# Altium schematic symbol library Acorn.SchLib: 6 symbols
Pins are listed as number, name and electrical type; pins without a type are passive.

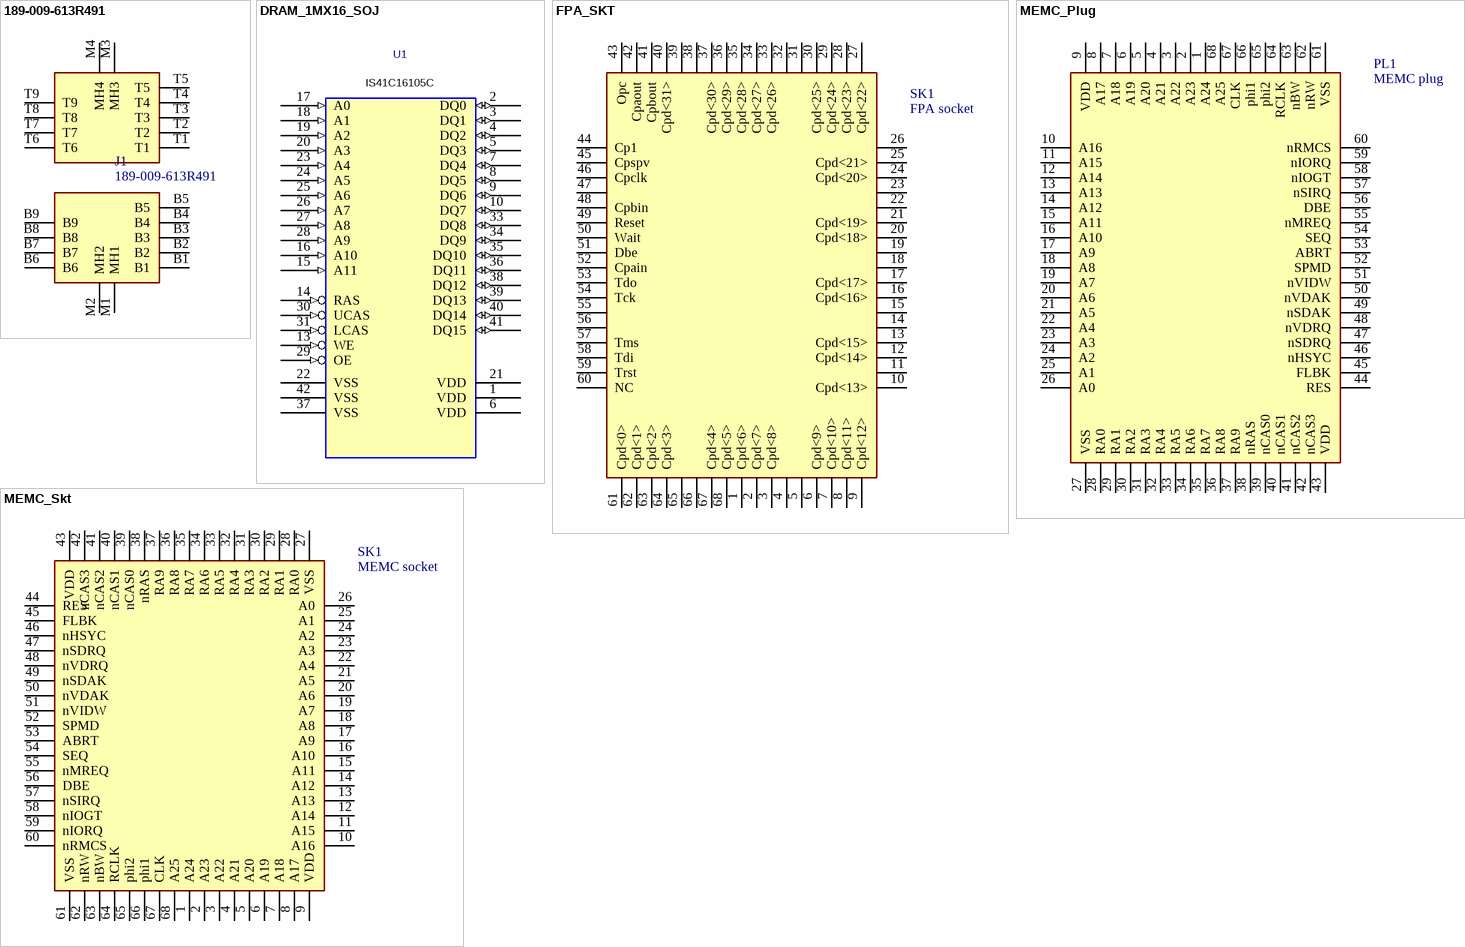
[diagram p0: symbols 189-009-613R491 to MEMC_Skt]

## 189-009-613R491
designator J1
Connector
footprint 189-009-613R491
pins: B1, B2, B3, B4, B5, B6, B7, B8, B9, M1 MH1, M2 MH2, M3 MH3, M4 MH4, T1, T2, T3, T4, T5, T6, T7, T8, T9

## DRAM_1MX16_SOJ
designator U1, comment IS41C16105C
Value: IS41C16105C
footprint SOJ-42
pins: 1 VCC (power) hidden, 1 VDD, 2 DQ0 (io), 3 DQ1 (io), 4 DQ2 (io), 5 DQ3 (io), 6 VCC (power) hidden, 6 VDD, 7 DQ4 (io), 8 DQ5 (io), 9 DQ6 (io), 10 DQ7 (io), 13 WE (in), 14 RAS (in), 15 A11 (in), 16 A10 (in), 17 A0 (in), 18 A1 (in), 19 A2 (in), 20 A3 (in), 21 VCC (power) hidden, 21 VDD, 22 VSS (power) hidden, 22 VSS, 23 A4 (in), 24 A5 (in), 25 A6 (in), 26 A7 (in), 27 A8 (in), 28 A9 (in), 29 OE (in), 30 UCAS (in), 31 LCAS (in), 33 DQ8 (io), 34 DQ9 (io), 35 DQ10 (io), 36 DQ11 (io), 37 VSS (power) hidden, 37 VSS, 38 DQ12 (io), 39 DQ13 (io), 40 DQ14 (io), 41 DQ15 (io), 42 VSS (power) hidden, 42 VSS

## FPA_SKT
designator SK1, comment FPA socket
Manufacturer_Name: 3M; Manufacturer_Part_Number: 8468-21B1-RK-TR; Datasheet Link: https://www.arrow.com/en/products/8468-21b1-rk-tr/3m; Height: 4.6mm; Mouser Part Number: 517-8468-21B1-RK-TR; Mouser Price/Stock: https://www.mouser.co.uk/ProductDetail/3M-Electronic-Solutions-Division/8468-21B1-RK-TR?qs=X%2F%2F06fXhnJ18zOj3KK47CQ%3D%3D; Arrow Part Number: 8468-21B1-RK-TR; Arrow Price/Stock: https://www.arrow.com/en/products/8468-21b1-rk-tr/3m
footprint MEMC_Socket
pins: 1 Cpd<6>, 2 Cpd<7>, 3 Cpd<8>, 4, 5, 6 Cpd<9>, 7 Cpd<10>, 8 Cpd<11>, 9 Cpd<12>, 10 Cpd<13>, 11, 12 Cpd<14>, 13 Cpd<15>, 14, 15, 16 Cpd<16>, 17 Cpd<17>, 18, 19, 20 Cpd<18>, 21 Cpd<19>, 22, 23, 24 Cpd<20>, 25 Cpd<21>, 26, 27 Cpd<22>, 28 Cpd<23>, 29 Cpd<24>, 30 Cpd<25>, 31, 32, 33 Cpd<26>, 34 Cpd<27>, 35 Cpd<28>, 36 Cpd<29>, 37 Cpd<30>, 38, 39, 40 Cpd<31>, 41 Cpbout, 42 Cpaout, 43 Opc, 44 Cp1, 45 Cpspv, 46 Cpclk, 47, 48 Cpbin, 49 Reset, 50 Wait, 51 Dbe, 52 Cpain, 53 Tdo, 54 Tck, 55, 56, 57 Tms, 58 Tdi, 59 Trst, 60 NC, 61 Cpd<0>, 62 Cpd<1>, 63 Cpd<2>, 64 Cpd<3>, 65, 66, 67 Cpd<4>, 68 Cpd<5>

## MEMC_Plug
designator PL1, comment MEMC plug
footprint PLCC127P2514X2514X457-68N
pins: 1 A24, 2 A23, 3 A22, 4 A21, 5 A20, 6 A19, 7 A18, 8 A17, 9 VDD, 10 A16, 11 A15, 12 A14, 13 A13, 14 A12, 15 A11, 16 A10, 17 A9, 18 A8, 19 A7, 20 A6, 21 A5, 22 A4, 23 A3, 24 A2, 25 A1, 26 A0, 27 VSS, 28 RA0, 29 RA1, 30 RA2, 31 RA3, 32 RA4, 33 RA5, 34 RA6, 35 RA7, 36 RA8, 37 RA9, 38 nRAS, 39 nCAS0, 40 nCAS1, 41 nCAS2, 42 nCAS3, 43 VDD, 44 RES, 45 FLBK, 46 nHSYC, 47 nSDRQ, 48 nVDRQ, 49 nSDAK, 50 nVDAK, 51 nVIDW, 52 SPMD, 53 ABRT, 54 SEQ, 55 nMREQ, 56 DBE, 57 nSIRQ, 58 nIOGT, 59 nIORQ, 60 nRMCS, 61 VSS, 62 nRW, 63 nBW, 64 RCLK, 65 phi2, 66 phi1, 67 CLK, 68 A25

## MEMC_Skt
designator SK1, comment MEMC socket
Manufacturer_Name: 3M; Manufacturer_Part_Number: 8468-21B1-RK-TR; Datasheet Link: https://www.arrow.com/en/products/8468-21b1-rk-tr/3m; Height: 4.6mm; Mouser Part Number: 517-8468-21B1-RK-TR; Mouser Price/Stock: https://www.mouser.co.uk/ProductDetail/3M-Electronic-Solutions-Division/8468-21B1-RK-TR?qs=X%2F%2F06fXhnJ18zOj3KK47CQ%3D%3D; Arrow Part Number: 8468-21B1-RK-TR; Arrow Price/Stock: https://www.arrow.com/en/products/8468-21b1-rk-tr/3m
footprint 846821B1RKTR
pins: 1 A24, 2 A23, 3 A22, 4 A21, 5 A20, 6 A19, 7 A18, 8 A17, 9 VDD, 10 A16, 11 A15, 12 A14, 13 A13, 14 A12, 15 A11, 16 A10, 17 A9, 18 A8, 19 A7, 20 A6, 21 A5, 22 A4, 23 A3, 24 A2, 25 A1, 26 A0, 27 VSS, 28 RA0, 29 RA1, 30 RA2, 31 RA3, 32 RA4, 33 RA5, 34 RA6, 35 RA7, 36 RA8, 37 RA9, 38 nRAS, 39 nCAS0, 40 nCAS1, 41 nCAS2, 42 nCAS3, 43 VDD, 44 RES, 45 FLBK, 46 nHSYC, 47 nSDRQ, 48 nVDRQ, 49 nSDAK, 50 nVDAK, 51 nVIDW, 52 SPMD, 53 ABRT, 54 SEQ, 55 nMREQ, 56 DBE, 57 nSIRQ, 58 nIOGT, 59 nIORQ, 60 nRMCS, 61 VSS, 62 nRW, 63 nBW, 64 RCLK, 65 phi2, 66 phi1, 67 CLK, 68 A25

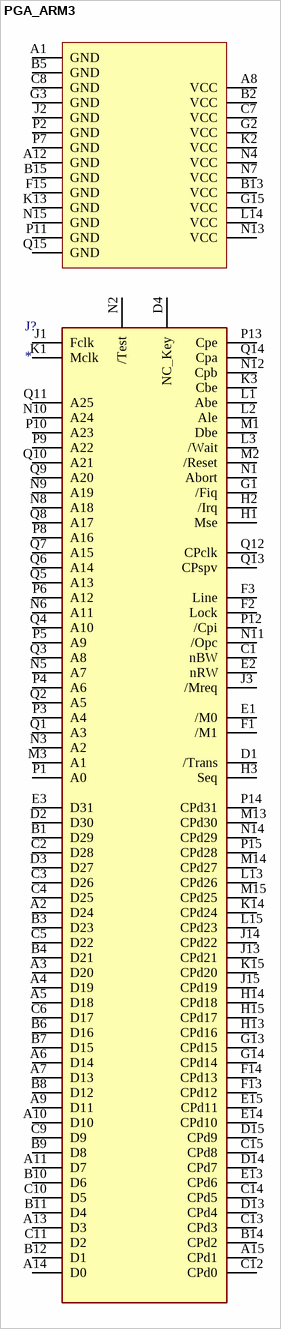
[diagram p1: symbol PGA_ARM3]

## PGA_ARM3
designator J?
ARM3
footprint PGA_ARM3
pins: A1 GND, A2 D24, A3 D20, A4 D19, A5 D18, A6 D14, A7 D13, A8 VCC, A9 D11, A10 D10, A11 D7, A12 GND, A13 D3, A14 D0, A15 CPd1, B1 D29, B2 VCC, B3 D23, B4 D21, B5 GND, B6 D16, B7 D15, B8 D12, B9 D8, B10 D6, B11 D4, B12 D1, B13 VCC, B14 CPd2, B15 GND, C1 nBW, C2 D28, C3 D26, C4 D25, C5 D22, C6 D17, C7 VCC, C8 GND, C9 D9, C10 D5, C11 D2, C12 CPd0, C13 CPd3, C14 CPd5, C15 CPd8, D1 /Trans, D2 D30, D3 D27, D4 NC_Key, D13 CPd4, D14 CPd7, D15 CPd9, E1 /M0, E2 nRW, E3 D31, E13 CPd6, E14 CPd10, E15 CPd11, F1 /M1, F2 Lock, F3 Line, F13 CPd12, F14 CPd13, F15 GND, G1 /Fiq, G2 VCC, G3 GND, G13 CPd15, G14 CPd14, G15 VCC, H1 Mse, H2 /Irq, H3 Seq, H13 CPd16, H14 CPd18, H15 CPd17, J1 Fclk, J2 GND, J3 /Mreq, J13 CPd21, J14 CPd22, J15 CPd19, K1 Mclk, K2 VCC, K3 Cbe, K13 GND, K14 CPd24, K15 CPd20, L1 Abe, L2 Ale, L3 /Wait, L13 CPd26, L14 VCC, L15 CPd23, M1 Dbe, M2 /Reset, M3 A1, M13 CPd30, M14 CPd27, M15 CPd25, N1 Abort, N2 /Test, N3 A2, N4 VCC, N5 A7, N6 A11, N7 VCC, N8 A18, N9 A19, N10 A24, N11 /Opc, N12 Cpb, N13 VCC, N14 CPd29, N15 GND, P1 A0, P2 GND, P3 A4, P4 A6, P5 A9, P6 A12, P7 GND, P8 A16, P9 A22, P10 A23, P11 GND, P12 /Cpi, P13 Cpe, P14 CPd31, P15 CPd28, Q1 A3, Q2 A5, Q3 A8, Q4 A10, Q5 A13, Q6 A14, Q7 A15, Q8 A17, Q9 A20, Q10 A21, Q11 A25, Q12 CPclk, Q13 CPspv, Q14 Cpa, Q15 GND